# Altium schematic symbol library FDS8928A (N-P dual MOSFET).SchLib: 1 symbol
Pins are listed as number, name and electrical type; pins without a type are passive.

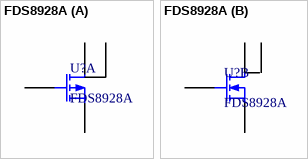
[diagram p0: symbol FDS8928A]

## FDS8928A
designator U?
MOSFET, DUAL, NP, SMD, 8-SOIC; farnell: 1467988
footprint FDS8928A (MOSFET DUAL NP)
part A pins: 3 S_P, 4 G_P, 5 D_P, 6 D_P
part B pins: 1 S_N, 2 G_N, 7 D_N, 8 D_N